# EAGLE library part BLE_SPI_NOMOUNTING (library collin)
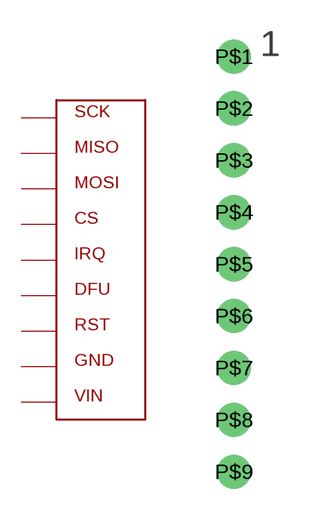
[diagram p7: symbol with the pads of ADABLE_NOHOLE; footprint ADABLE_NOHOLE]

Designator prefix -

## BLE_SPI_NOMOUNTING  [ADABLE_NOHOLE]
P$1  P$1
P$2  P$2
P$3  P$3
P$4  P$4
P$5  P$5
P$6  P$6
P$7  P$7
P$8  P$8
P$9  P$9

## Footprint ADABLE_NOHOLE (pad centres in mm)
drill 0.9 pad 1.676: P$1 1.27,21.59; P$2 1.27,19.05; P$3 1.27,16.51; P$4 1.27,13.97; P$5 1.27,11.43; P$6 1.27,8.89; P$7 1.27,6.35; P$8 1.27,3.81; P$9 1.27,1.27